# Altium schematic symbol library mh-cd42.SchLib: 1 symbol
Pins are listed as number, name and electrical type; pins without a type are passive.

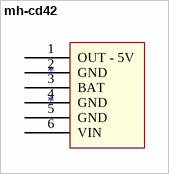
[diagram p0: symbol mh-cd42]

## mh-cd42
designator *
footprint mh-cd42
pins: 1 OUT - 5V, 2 GND, 3 BAT, 4 GND, 5 GND, 6 VIN "nguồn vào"